# Altium footprint library HSBNE-Vend.PcbLib: 33 footprints (part 3 of 3)
Each footprint in its own frame and in the unit in brackets; x right, y up, seen from the top. Pads: shape width x height; smd on the part's side, far side on the other; paste and mask are expansions set on the pad; w line width, h text height; cw(c..) or ccw(c..) is an arc to the next point about the centre after c.
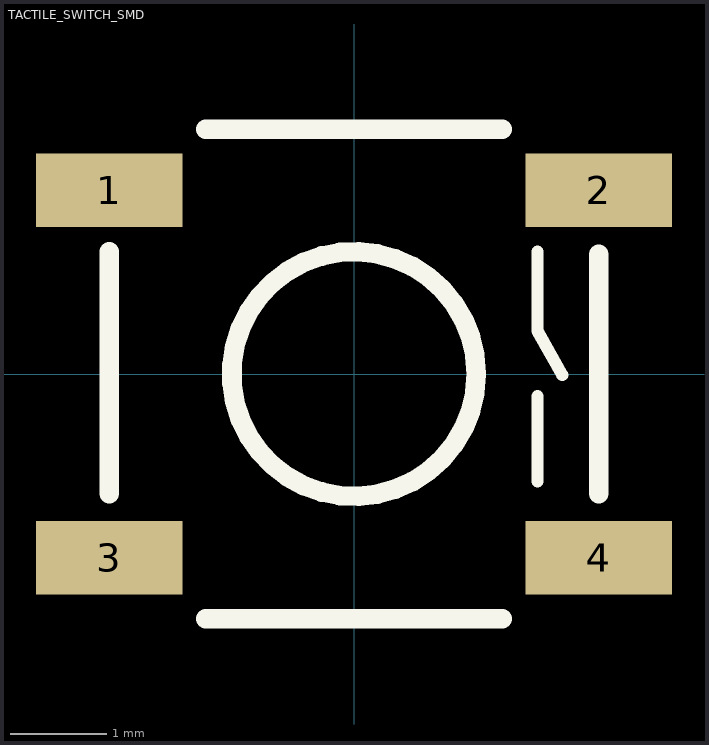
[diagram p2: the footprint, top view; thin cyan lines are the x and y axes]

## TACTILE_SWITCH_SMD [mil]
pads (4):
  rect 60x30 smd: 1(-100,75) 2(100,75) 3(-100,-75) 4(100,-75)
Top Overlay:
  circle w8: c0,0 r50
  lines w5: 75,-43.9 75,-9.05 ; 75,50 75,17.52 85.04,-0.39
  lines w8: -100,-48.82 -100,50 ; -60.63,-100 60.63,-100 ; -60.63,100 60.63,100 ; 100,-48.82 100,48.82
3D body: height 70.87, standoff 0, extent -103.35,-108.27 103.35,103.35
3D body: height 122.05, standoff 0, extent -58.58,-58.93 59.06,58.94